# EAGLE library part 6111 (library mb_submini)
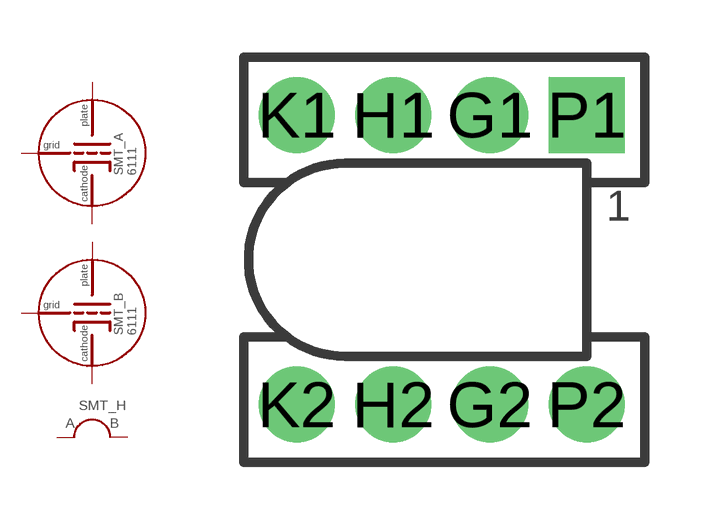
[diagram p0: symbol with the pads of DIL8; footprint DIL8]

Designator prefix SMT_; gates A=SUBMINI B=SUBMINI H=HEATERS

## 6111  [DIL8]
G1  A:GRID
G2  B:GRID
H1  H:3
H2  H:6
K1  A:CATHODE
K2  B:CATHODE
P1  A:PLATE
P2  B:PLATE

## Footprint DIL8 (pad centres in mm)
drill 1 pad 2 round: G1 1.27,3.81; G2 1.27,-3.81; H1 -1.27,3.81; H2 -1.27,-3.81; K1 -3.81,3.81; K2 -3.81,-3.81; P2 3.81,-3.81
drill 1 pad 2 square: P1 3.81,3.81